# Altium schematic symbol library 20-Switches 开关件.SchLib: 78 symbols
Pins are listed as number, name and electrical type; pins without a type are passive.

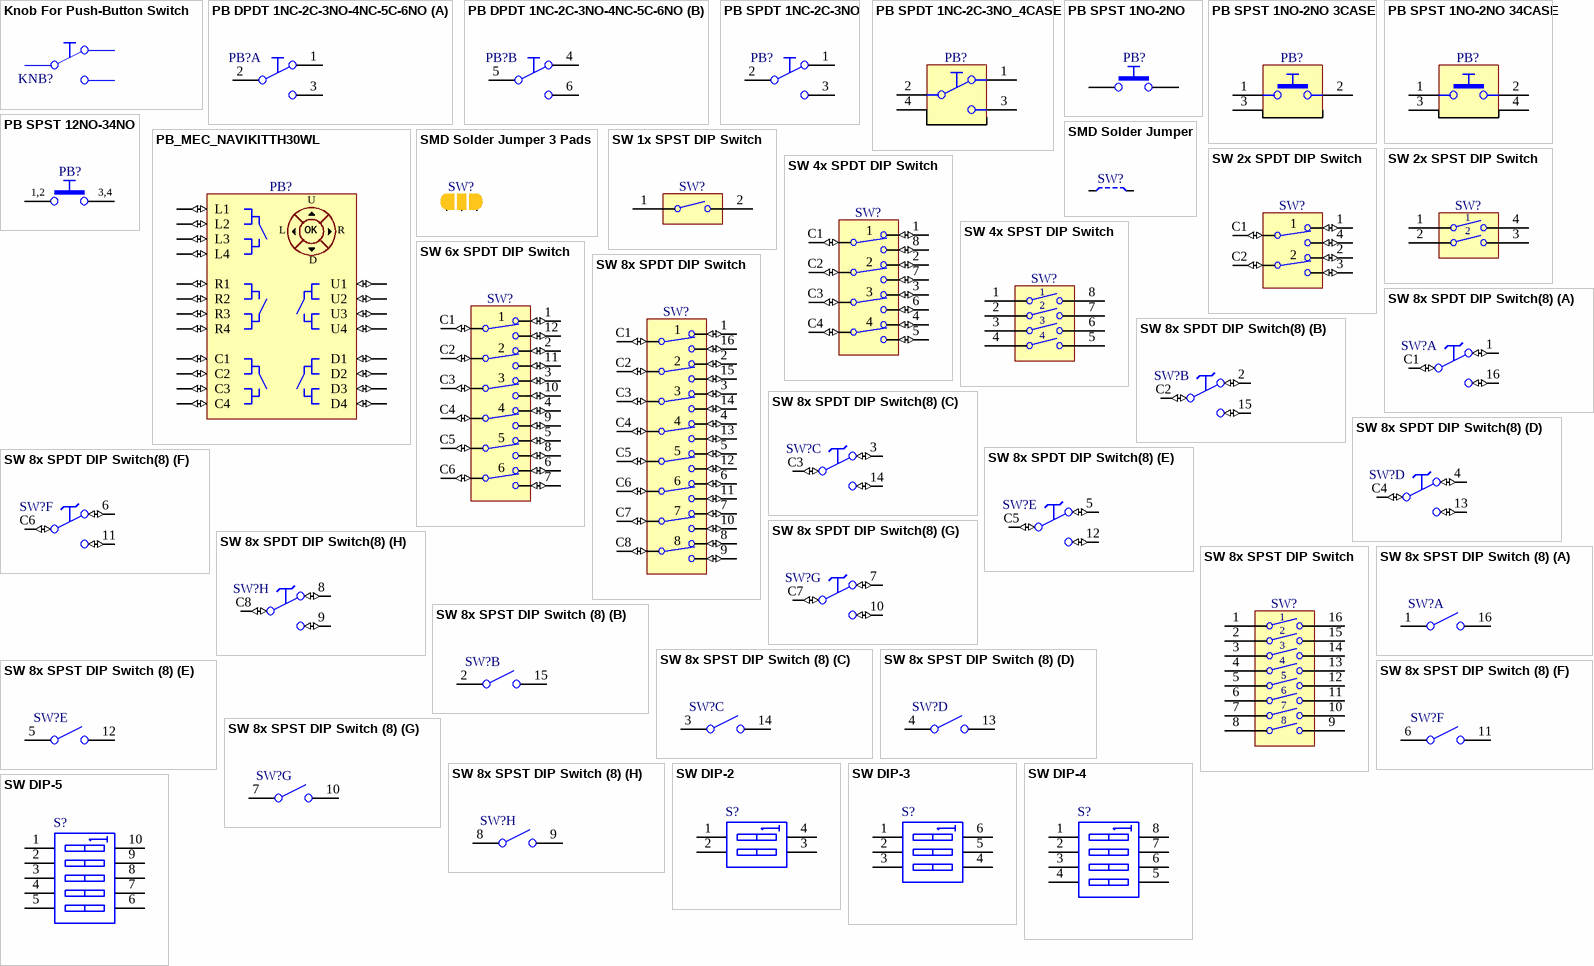
[diagram p0: symbols Knob For Push-Button Switch to SW DIP-5]

## Knob For Push-Button Switch
designator KNB?
Knob For Push-Button Switch

## PB DPDT 1NC-2C-3NO-4NC-5C-6NO
designator PB?
Push-Button Switch DPDT
part A pins: 1, 2, 3
part B pins: 4, 5, 6

## PB SPDT 1NC-2C-3NO
designator PB?
Push-Button Switch SPDT
pins: 1, 2, 3

## PB SPDT 1NC-2C-3NO_4CASE
designator PB?
Push-Button Switch SPDT
pins: 1, 2, 3, 4

## PB SPST 1NO-2NO
designator PB?
Push-Button Switch SPDT
pins: 1, 2

## PB SPST 1NO-2NO 3CASE
designator PB?
Push-Button Switch SPDT
pins: 1, 2, 3

## PB SPST 1NO-2NO 34CASE
designator PB?
Push-Button Switch SPDT
pins: 1, 2, 3, 4

## PB SPST 12NO-34NO
designator PB?
Push-Button Switch SPDT
pins: 1, 2, 3, 4
text: 1,2; 3,4

## PB_MEC_NAVIKITTH30WL
designator PB?
4 pcs. 1ZB Keycaps on 3A Switches And 1 pc. of 1ZC on 3F Switches, MEC NAVIMEC
pins: C1 (io), C2 (io), C3 (io), C4 (io), D1 (io), D2 (io), D3 (io), D4 (io), L1 (io), L2 (io), L3 (io), L4 (io), R1 (io), R2 (io), R3 (io), R4 (io), U1 (io), U2 (io), U3 (io), U4 (io)
text: U; L; OK; R; D

## SMD Solder Jumper
designator SW?
2 SMD Pads for Bound by Solder  Drop
pins: 1, 2

## SMD Solder Jumper 3 Pads
designator SW?
3 SMD Pads for Bound by Solder  Drop
pins: 1, 2, 3

## SW 1x SPST DIP Switch
designator SW?
1 Ways SPST DIP Switch
pins: 1, 2

## SW 2x SPDT DIP Switch
designator SW?
2x SPDT Switch
pins: 1 NC (io), 2 NC (io), 3 NO (io), 4 NO (io), C1 C (io), C2 C (io)

## SW 2x SPST DIP Switch
designator SW?
2 Ways SPST DIP Switch
pins: 1, 2, 3, 4

## SW 4x SPDT DIP Switch
designator SW?
4x SPDT Switch
pins: 1 NC (io), 2 NC (io), 3 NC (io), 4 NC (io), 5 NO (io), 6 NO (io), 7 NO (io), 8 NO (io), C1 C (io), C2 C (io), C3 C (io), C4 C (io)

## SW 4x SPST DIP Switch
designator SW?
4 Ways SPST DIP Switch
pins: 1, 2, 3, 4, 5, 6, 7, 8

## SW 6x SPDT DIP Switch
designator SW?
6x SPDT Switch
pins: 1 NC (io), 2 NC (io), 3 NC (io), 4 NC (io), 5 NC (io), 6 NC (io), 7 NO (io), 8 NO (io), 9 NO (io), 10 NO (io), 11 NO (io), 12 NO (io), C1 C (io), C2 C (io), C3 C (io), C4 C (io), C5 C (io), C6 C (io)

## SW 8x SPDT DIP Switch
designator SW?
8x SPDT Switch
pins: 1 NC (io), 2 NC (io), 3 NC (io), 4 NC (io), 5 NC (io), 6 NC (io), 7 NC (io), 8 NC (io), 9 NO (io), 10 NO (io), 11 NO (io), 12 NO (io), 13 NO (io), 14 NO (io), 15 NO (io), 16 NO (io), C1 C (io), C2 C (io), C3 C (io), C4 C (io), C5 C (io), C6 C (io), C7 C (io), C8 C (io)

## SW 8x SPDT DIP Switch(8)
designator SW?
8x SPDT Switch
part A pins: 1 NC (io), 16 NO (io), C1 C (io)
part B pins: 2 NC (io), 15 NO (io), C2 C (io)
part C pins: 3 NC (io), 14 NO (io), C3 C (io)
part D pins: 4 NC (io), 13 NO (io), C4 C (io)
part E pins: 5 NC (io), 12 NO (io), C5 C (io)
part F pins: 6 NC (io), 11 NO (io), C6 C (io)
part G pins: 7 NC (io), 10 NO (io), C7 C (io)
part H pins: 8 NC (io), 9 NO (io), C8 C (io)

## SW 8x SPST DIP Switch
designator SW?
8 Ways SPST DIP Switch
pins: 1, 2, 3, 4, 5, 6, 7, 8, 9, 10, 11, 12, 13, 14, 15, 16

## SW 8x SPST DIP Switch (8)
designator SW?
8 Ways SPST DIP Switch
part A pins: 1, 16
part B pins: 2, 15
part C pins: 3, 14
part D pins: 4, 13
part E pins: 5, 12
part F pins: 6, 11
part G pins: 7, 10
part H pins: 8, 9

## SW DIP-2
designator S?
DIP Switch, 2 Position, SPST; Published: 24-Mar-1999; LatestRevisionDate: 17-Jul-2002; LatestRevisionNote: Re-released for DXP Platform.; PackageReference: DIP-4; Publisher: Altium Limited
footprint DIP-4 (DIP; 4 Leads; Row Spacing 7.62 mm; Pitch 2.54 mm)
simulation model dpsw2 (Spice Subcircuit)
pins: 1 A1, 2 A2, 3 B2, 4 B1

## SW DIP-3
designator S?
DIP Switch, 3 Position, SPST; Published: 24-Mar-1999; LatestRevisionDate: 17-Jul-2002; LatestRevisionNote: Re-released for DXP Platform.; PackageReference: DIP-6; Publisher: Altium Limited; Code_JEDEC: MO-001-AM
footprint DIP-6 (DIP; 6 Leads; Row Spacing 7.62 mm; Pitch 2.54 mm)
simulation model dpsw3 (Spice Subcircuit)
pins: 1 A1, 2 A2, 3 A3, 4 B3, 5 B2, 6 B1

## SW DIP-4
designator S?
DIP Switch, 4 Position, SPST; Published: 24-Mar-1999; LatestRevisionDate: 29-May-2009; LatestRevisionNote: IPC-7351 Footprint Added.; PackageVersion: Dec-2002; PackageReference: SO8; Publisher: Altium Limited; PackageDescription: 8-Pin Small Outline Integrated Circuit 1.27 mm Pitch; Code_JEDEC: MS-012-AA; Code_IPC: SOIC127P600-8
footprint SOIC127P600-8N (SOIC, 8-Leads, Body 4.9x3.9mm, Pitch 1.27mm, IPC Medium Density)
footprint SOIC127P600-8L (SOIC, 8-Leads, Body 4.9x3.9mm, Pitch 1.27mm, IPC High Density)
footprint SOIC127P600-8M (SOIC, 8-Leads, Body 4.9x3.9mm, Pitch 1.27mm, IPC Low Density)
simulation model dpsw4 (Spice Subcircuit)
footprint SW DIP8-P
pins: 1 A1, 2 A2, 3 A3, 4 A4, 5 B4, 6 B3, 7 B2, 8 B1

## SW DIP-5
designator S?
DIP Switch, 5 Position, SPST; Published: 24-Mar-1999; LatestRevisionDate: 17-Jul-2002; LatestRevisionNote: Re-released for DXP Platform.; PackageReference: N10A; Publisher: Altium Limited
footprint DIP-10/D14.5 (DIP; 10 Leads; Row Spacing 7.62 mm; Pitch 2.54 mm)
simulation model dpsw5 (Spice Subcircuit)
pins: 1 A1, 2 A2, 3 A3, 4 A4, 5 A5, 6 B5, 7 B4, 8 B3, 9 B2, 10 B1

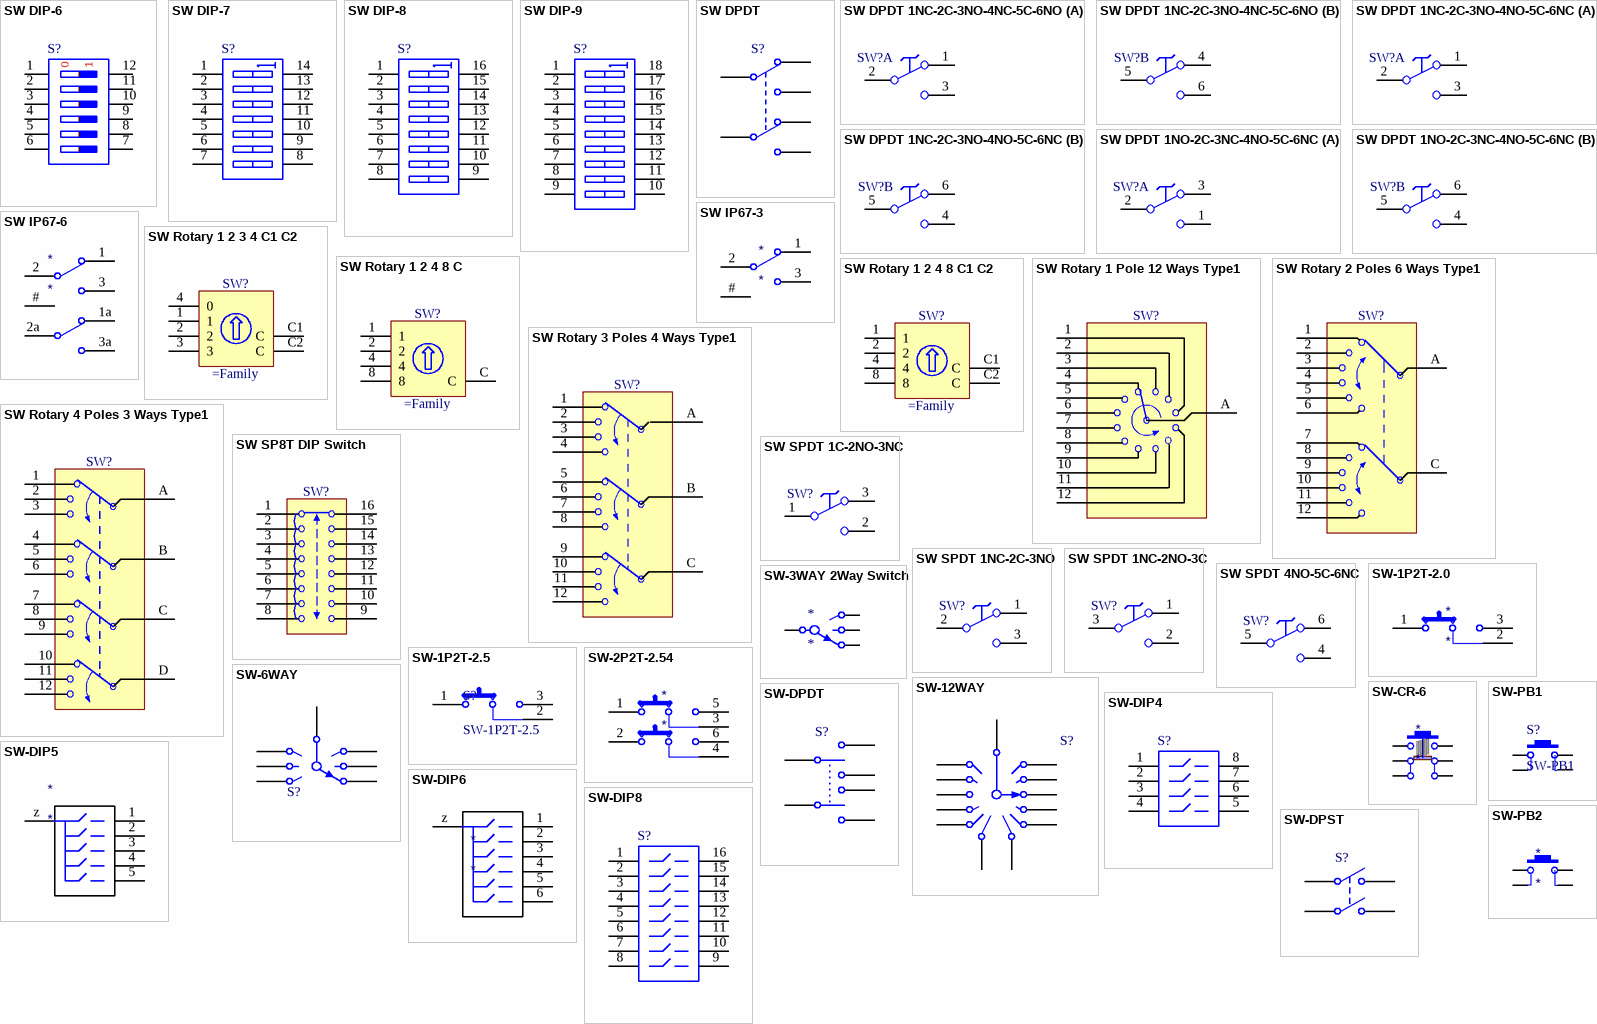
[diagram p1: symbols SW DIP-6 to SW-PB2]

## SW DIP-6
designator S?
DIP Switch, 6 Position, SPST; Published: 24-Mar-1999; LatestRevisionDate: 17-Jul-2002; LatestRevisionNote: Re-released for DXP Platform.; PackageReference: DIP-12/SW; Publisher: Altium Limited
footprint DIP-12/SW (DIP Switch; 12 Leads)
pins: 1 A1, 2 A2, 3 A3, 4 A4, 5 A5, 6 A6, 7 B6, 8 B5, 9 B4, 10 B3, 11 B2, 12 B1
text: 0

## SW DIP-7
designator S?
DIP Switch, 7 Position, SPST; Published: 24-Mar-1999; LatestRevisionDate: 17-Jul-2002; LatestRevisionNote: Re-released for DXP Platform.; PackageReference: DIP-14; Publisher: Altium Limited; Code_JEDEC: MO-001-AF
footprint DIP-14 (DIP; 14 Leads; Row Spacing 7.62 mm; Pitch 2.54 mm)
simulation model dpsw7 (Spice Subcircuit)
pins: 1 A1, 2 A2, 3 A3, 4 A4, 5 A5, 6 A6, 7 A7, 8 B7, 9 B6, 10 B5, 11 B4, 12 B3, 13 B2, 14 B1

## SW DIP-8
designator S?
DIP Switch, 8 Position, SPST; Published: 24-Mar-1999; LatestRevisionDate: 17-Jul-2002; LatestRevisionNote: Re-released for DXP Platform.; PackageReference: DIP_SW_8WAY_SMD; Publisher: Altium Limited
footprint DIP_SW_8WAY_SMD (DIP Switch; 16 Leads)
simulation model dpsw8 (Spice Subcircuit)
pins: 1 A1, 2 A2, 3 A3, 4 A4, 5 A5, 6 A6, 7 A7, 8 A8, 9 B8, 10 B7, 11 B6, 12 B5, 13 B4, 14 B3, 15 B2, 16 B1

## SW DIP-9
designator S?
DIP Switch, 9 Position, SPST; Published: 24-Mar-1999; LatestRevisionDate: 17-Jul-2002; LatestRevisionNote: Re-released for DXP Platform.; PackageReference: DIP-18; Publisher: Altium Limited; Code_JEDEC: MO-036-AE
footprint DIP-18 (DIP; 18 Leads; Row Spacing 7.62 mm; Pitch 2.54 mm)
simulation model dpsw9 (Spice Subcircuit)
pins: 1 A1, 2 A2, 3 A3, 4 A4, 5 A5, 6 A6, 7 A7, 8 A8, 9 A9, 10 B9, 11 B8, 12 B7, 13 B6, 14 B5, 15 B4, 16 B3, 17 B2, 18 B1

## SW DPDT
designator S?
Switch; Published: 24-Mar-1999; LatestRevisionDate: 29-May-2009; LatestRevisionNote: IPC-7351 Footprint Added.; PackageVersion: Mar-2001; PackageReference: SOT23-6; Publisher: Altium Limited; PackageDescription: 6-Pin SOT-23 Package 0.95 mm Pitch, 2.7 mm Lead Span; Code_JEITA: SC-74; Code_IPC: SOT26A-6
footprint SOT26A-6N (SOT23, 6-Leads, Body 2.9x1.6mm, Pitch 0.95mm, Lead Span 2.7mm, IPC Medium Density)
footprint SOT26A-6L (SOT23, 6-Leads, Body 2.9x1.6mm, Pitch 0.95mm, Lead Span 2.7mm, IPC High Density)
footprint SOT26A-6M (SOT23, 6-Leads, Body 2.9x1.6mm, Pitch 0.95mm, Lead Span 2.7mm, IPC Low Density)
pins: 1 COMMON1, 2 NC1, 3 NO1, 4 NC2, 5 COMMON2, 6 NO2

## SW DPDT 1NC-2C-3NO-4NC-5C-6NO
designator SW?
DPDTSwitch
part A pins: 1 NC, 2 C, 3 NO
part B pins: 4 NC, 5 C, 6 NO

## SW DPDT 1NC-2C-3NO-4NO-5C-6NC
designator SW?
DPDTSwitch
part A pins: 1, 2, 3
part B pins: 4, 5, 6

## SW DPDT 1NO-2C-3NC-4NO-5C-6NC
designator SW?
DPDTSwitch
part A pins: 1, 2, 3
part B pins: 4, 5, 6

## SW IP67-3
designator *
footprint 4AD1R102VS2QE
pins: 1 off, 2 COM, 3 NO, # COM

## SW IP67-6
designator *
pins: 1 off, 1a off, 2 COM, 2a COM, 3 NO, 3a NO, # COM

## SW Rotary 1 2 3 4 C1 C2
designator SW?
Rotary Code Switch 1 2 3 4 C1 C2
pins: 1, 2, 3, 4 0, C1 C, C2 C

## SW Rotary 1 2 4 8 C
designator SW?
Rotary Code Switch 1 2 4 8 C
pins: 1, 2, 4, 8, C

## SW Rotary 1 2 4 8 C1 C2
designator SW?
Rotary Code Switch 1 2 4 8 C1 C2
pins: 1, 2, 4, 8, C1 C, C2 C

## SW Rotary 1 Pole 12 Ways Type1
designator SW?
1 Pole 12 Ways Rotary Switch
pins: 1, 2, 3, 4, 5, 6, 7, 8, 9, 10, 11, 12, A

## SW Rotary 2 Poles 6 Ways Type1
designator SW?
2 Poles 6 Ways Rotary Switch
pins: 1, 2, 3, 4, 5, 6, 7, 8, 9, 10, 11, 12, A, C

## SW Rotary 3 Poles 4 Ways Type1
designator SW?
3 Poles 4 Ways Rotary Switch
pins: 1, 2, 3, 4, 5, 6, 7, 8, 9, 10, 11, 12, A, B, C

## SW Rotary 4 Poles 3 Ways Type1
designator SW?
4 Poles 3 Ways Rotary Switch
pins: 1, 2, 3, 4, 5, 6, 7, 8, 9, 10, 11, 12, A, B, C, D

## SW SP8T DIP Switch
designator SW?
SP8T DIP Switch
pins: 1, 2, 3, 4, 5, 6, 7, 8, 9, 10, 11, 12, 13, 14, 15, 16

## SW SPDT 1C-2NO-3NC
designator SW?
SPDT Switch
pins: 1, 2, 3

## SW SPDT 1NC-2C-3NO
designator SW?
SPDT Switch
pins: 1 NC, 2 C, 3 NO

## SW SPDT 1NC-2NO-3C
designator SW?
SPDT Switch
pins: 1, 2, 3

## SW SPDT 4NO-5C-6NC
designator SW?
Push-Button Switch SPDT
pins: 4 NO, 5 C, 6 NC

## SW-1P2T-2.0
designator *
footprint 1P2T-2.0
pins: 1, 2 comm, 3

## SW-1P2T-2.5
designator S?
Single-Pole, Single-Throw Switch; Published: 24-Mar-1999; LatestRevisionDate: 17-Jul-2002; LatestRevisionNote: Re-released for DXP Platform.; PackageReference: SPST-2; Publisher: Altium Limited
footprint MHSS1105 1P2T
pins: 1, 2 comm, 3

## SW-2P2T-2.54
designator *
footprint 2P2T-2.54
pins: 1, 2, 3, 4, 5, 6

## SW-3WAY 2Way Switch
designator *
pins: 1, 2, 3, 4

## SW-6WAY
designator S?
6 Way Switch; Published: 24-Mar-1999; LatestRevisionDate: 17-Jul-2002; LatestRevisionNote: Re-released for DXP Platform.; PackageReference: SW-7; Publisher: Altium Limited
footprint SW-7 (6 Way Switch; 7 Leads)
pins: 1, 2, 3, 4, 5, 6, 7

## SW-12WAY
designator S?
12 Way Switch; Published: 24-Mar-1999; LatestRevisionDate: 17-Jul-2002; LatestRevisionNote: Re-released for DXP Platform.; PackageReference: DIP-13(14); Publisher: Altium Limited
footprint DIP-13(14) (DIP; 14 Leads (1 Absent); Row Spacing 7.62 mm; Pitch 2.54 mm)
pins: 1, 2, 3, 5, 6, 7, 8, 9, 10, 11, 12, 13, 14

## SW-CR-6
designator *
footprint CR-6
pins: 1, 2, 3, 4, 5, 6

## SW-DIP4
designator S?
DIP Switch; Published: 24-Mar-1999; LatestRevisionDate: 17-Jul-2002; LatestRevisionNote: Re-released for DXP Platform.; PackageReference: DIP-8; Publisher: Altium Limited
footprint DIP-8 (DIP; 8 Leads; Row Spacing 7.62 mm; Pitch 2.54 mm)
simulation model dpsw4 (Spice Subcircuit)
pins: 1, 2, 3, 4, 5, 6, 7, 8

## SW-DIP5
designator *
footprint SW-DIP5
pins: 1, 2, 3, 4, 5, z

## SW-DIP6
designator *
pins: 1, 2, 3, 4, 5, 6, z

## SW-DIP8
designator S?
4009 Series DIP Switch, Raised actuator; Published: 24-Mar-1999; LatestRevisionDate: 17-Dec-2003; LatestRevisionNote: PCB Footprint replaced.; PackageReference: DIP-16-KEY; Publisher: Altium Limited; ComponentLink1Description: Manufacturer Link; ComponentLink1URL: http://www.oupiin.com/prodindx.html#Headers
footprint DIP-16-KEY (DIP; 16 Leads; Row Spacing 7.62 mm; Pitch 2.54 mm)
simulation model dpsw8 (Spice Subcircuit)
pins: 1, 2, 3, 4, 5, 6, 7, 8, 9, 10, 11, 12, 13, 14, 15, 16

## SW-DPDT
designator S?
Double-Pole, Double-Throw Switch; Published: 24-Mar-1999; LatestRevisionDate: 17-Jul-2002; LatestRevisionNote: Re-released for DXP Platform.; PackageReference: DPDT-6; Publisher: Altium Limited
footprint DPDT-6 (Double-Pole, Double-Throw Switch; 6 Leads)
pins: 1, 2, 3, 4, 5, 6

## SW-DPST
designator S?
Double-Pole, Single-Throw Switch; Published: 24-Mar-1999; LatestRevisionDate: 17-Jul-2002; LatestRevisionNote: Re-released for DXP Platform.; PackageReference: DPST-4; Publisher: Altium Limited
footprint DPST-4 (Double-Pole, Single-Throw Switch; 4 Leads)
pins: 1 COMMON1, 2 NO1, 3 COMMON2, 4 NO2

## SW-PB1
designator S?
Switch; Published: 24-Mar-1999; LatestRevisionDate: 17-Jul-2002; LatestRevisionNote: Re-released for DXP Platform.; PackageReference: SPST-2; Publisher: Altium Limited
footprint 1825967 (6*6)
pins: 1, 2, 3, 4

## SW-PB2
designator *
footprint PB_TYCO_FSM6JSMA (Body 6mm x 6mm, Surface Mount Tactile Switches, TYCO FSM6JSMA Series)
pins: 1, 2, 3, 4

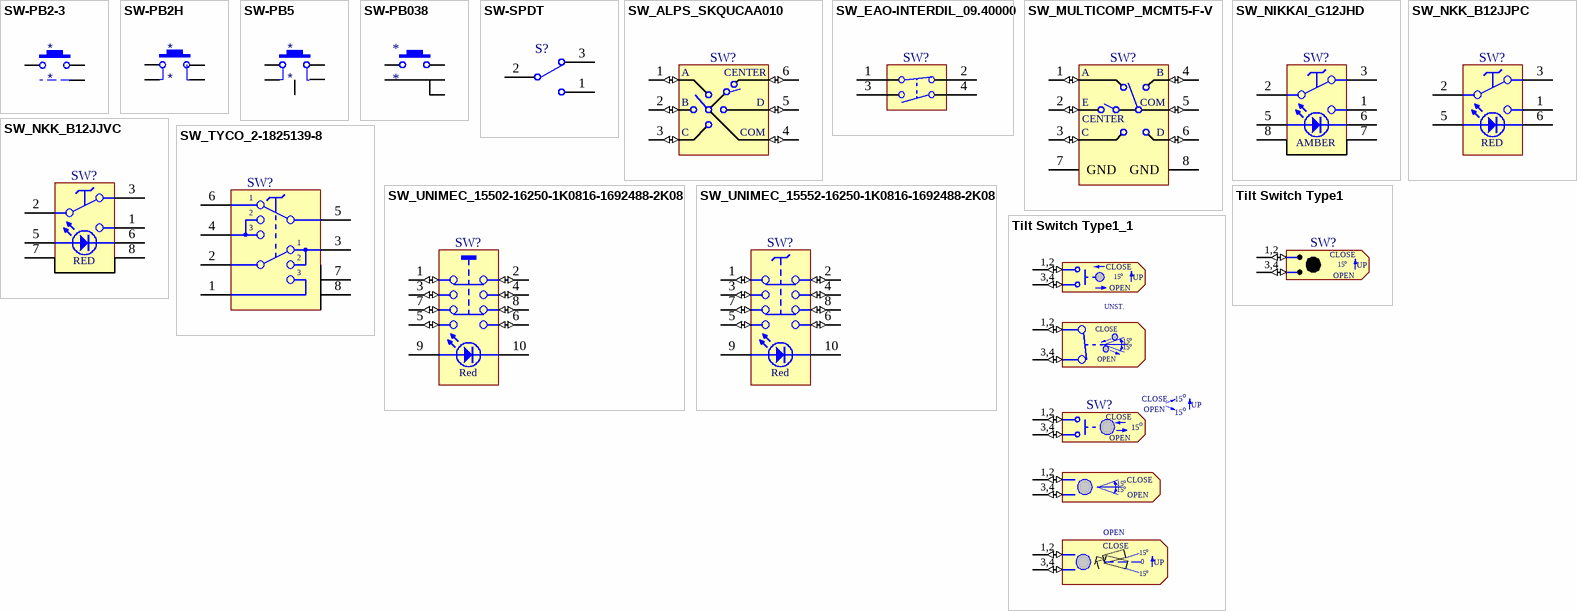
[diagram p2: symbols SW-PB2-3 to Tilt Switch Type1_1]

## SW-PB2-3
designator *
footprint PB_ALPS_4.5X4.5X7
pins: 1, 2, 3

## SW-PB2H
designator *
footprint PB_OMRON_B3F-1070 (6x6mm Model, Horizontal, Flat Plunger Type (without Ground Terminal) Pushbutton Switch, OMRON B3F Series)
pins: 1, 2, 3, 4

## SW-PB5
designator *
footprint SMT 6.2X6.2X3.1-5
pins: 1, 2, 3, 4, 5

## SW-PB038
designator *
footprint TC-038
pins: 1, 2, 3, 4, 5

## SW-SPDT
designator S?
SPDT Subminiature Toggle Switch, Right Angle Mounting, Vertical Actuation; Published: 24-Mar-1999; LatestRevisionDate: 17-Dec-2003; LatestRevisionNote: Schematic revised, PCB Footprint replaced.; DatasheetVersion: 05-Dec-2000; PackageReference: TL36WW15050; Publisher: Altium Limited; ComponentLink1Description: Manufacturer Link; ComponentLink1URL: http://www.apem.com
footprint TL36WW15050 (SPDT Subminiature Toggle Switch, Right Angle Mounting, Vertical Actuation)
pins: 1, 2, 3

## SW_ALPS_SKQUCAA010
designator SW?
Compact 10mm square TACT Switch type provides compound actions of 4-directional and center push
pins: 1 A (io), 2 E (io), 3 C (io), 4 D (io), 5 COM (io), 6 B (io)
text: CENTER

## SW_EAO-INTERDIL_09.40000
designator SW?
2x SPST DIP Switch 1NO + 1NF
pins: 1, 2, 3, 4

## SW_MULTICOMP_MCMT5-F-V
designator SW?
Navigation Switch - Multidirectional 5 Way
pins: 1 A (io), 2 E (io), 3 C (io), 4 D (io), 5 COM (io), 6 B (io), 7 GND (power), 8 GND (power)
text: CENTER

## SW_NIKKAI_G12JHD
designator SW?
SPDT Switch
pins: 1, 2, 3, 5, 6, 7, 8
text: AMBER

## SW_NKK_B12JJPC
designator SW?
SPDT ON NONE ON Red Illuminated Switch
pins: 1, 2, 3, 5, 6
text: RED

## SW_NKK_B12JJVC
designator SW?
SPDT ON NONE ON Red Illuminated Switch
pins: 1, 2, 3, 5, 6, 7, 8
text: RED

## SW_TYCO_2-1825139-8
designator SW?
DPDT Switch (ON-ON-ON)
pins: 1, 2, 3, 4, 5, 6, 7, 8

## SW_UNIMEC_15502-16250-1K0816-1692488-2K08
designator SW?
Momentary Gold 2 Poles Switch With Extender + Red Cap + Red LED + Red Bezel
pins: 1 (io), 2 (io), 3 (io), 4 (io), 5 (io), 6 (io), 7 (io), 8 (io), 9, 10
text: Red

## SW_UNIMEC_15552-16250-1K0816-1692488-2K08
designator SW?
Alternate Gold 2 Poles Switch With Extender + Red Cap + Red LED + Red Bezel
pins: 1 (io), 2 (io), 3 (io), 4 (io), 5 (io), 6 (io), 7 (io), 8 (io), 9, 10
text: Red

## Tilt Switch Type1
designator SW?
Rollerball - Tilt Switch
pins: 1 (io), 2 (io), 3 (io), 4 (io)
text: 1,2; CLOSE; 15; o; UP; 3,4; OPEN

## Tilt Switch Type1_1
designator SW?
Rollerball - Tilt Switch
pins: 1 (io), 1 (io), 1 (io), 1 (io), 1 (io), 2 (io), 2 (io), 2 (io), 2 (io), 2 (io), 3 (io), 3 (io), 3 (io), 3 (io), 3 (io), 4 (io), 4 (io), 4 (io), 4 (io), 4 (io)
text: 1,2; CLOSE; 15; o; UP; 3,4; OPEN; UNST.; 0